# Altium schematic symbol library Common.SchLib: 5 symbols
Pins are listed as number, name and electrical type; pins without a type are passive.

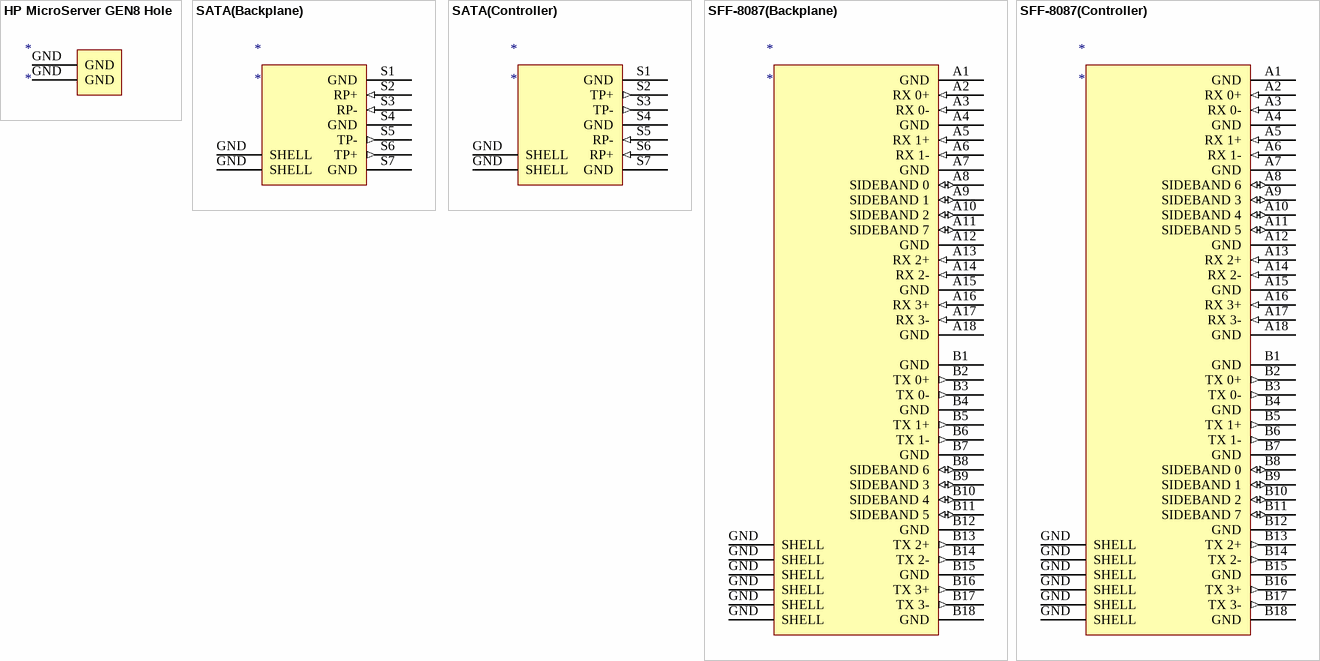
[diagram p0: symbols HP MicroServer GEN8 Hole to SFF-8087(Controller)]

## HP MicroServer GEN8 Hole
designator *
footprint GEN8-HDD-Backplane-Hole
pins: GND, GND

## SATA(Backplane)
designator *
footprint MOLEX SATA (47080-4001) (47080-4001,0470804001)
pins: GND SHELL, GND SHELL, S1 GND, S2 RP+ (in), S3 RP- (in), S4 GND, S5 TP- (out), S6 TP+ (out), S7 GND

## SATA(Controller)
designator *
footprint MOLEX SATA (47080-4001) (47080-4001,0470804001)
pins: GND SHELL, GND SHELL, S1 GND, S2 TP+ (out), S3 TP- (out), S4 GND, S5 RP- (in), S6 RP+ (in), S7 GND

## SFF-8087(Backplane)
designator *
footprint Molex SFF-8087 (75783-0140) (75783-0140,0757830140)
pins: A1 GND, A2 RX 0+ (in), A3 RX 0- (in), A4 GND, A5 RX 1+ (in), A6 RX 1- (in), A7 GND, A8 SIDEBAND 0 (io), A9 SIDEBAND 1 (io), A10 SIDEBAND 2 (io), A11 SIDEBAND 7 (io), A12 GND, A13 RX 2+ (in), A14 RX 2- (in), A15 GND, A16 RX 3+ (in), A17 RX 3- (in), A18 GND, B1 GND, B2 TX 0+ (out), B3 TX 0- (out), B4 GND, B5 TX 1+ (out), B6 TX 1- (out), B7 GND, B8 SIDEBAND 6 (io), B9 SIDEBAND 3 (io), B10 SIDEBAND 4 (io), B11 SIDEBAND 5 (io), B12 GND, B13 TX 2+ (out), B14 TX 2- (out), B15 GND, B16 TX 3+ (out), B17 TX 3- (out), B18 GND, GND SHELL, GND SHELL, GND SHELL, GND SHELL, GND SHELL, GND SHELL

## SFF-8087(Controller)
designator *
footprint Molex SFF-8087 (75783-0140) (75783-0140,0757830140)
pins: A1 GND, A2 RX 0+ (in), A3 RX 0- (in), A4 GND, A5 RX 1+ (in), A6 RX 1- (in), A7 GND, A8 SIDEBAND 6 (io), A9 SIDEBAND 3 (io), A10 SIDEBAND 4 (io), A11 SIDEBAND 5 (io), A12 GND, A13 RX 2+ (in), A14 RX 2- (in), A15 GND, A16 RX 3+ (in), A17 RX 3- (in), A18 GND, B1 GND, B2 TX 0+ (out), B3 TX 0- (out), B4 GND, B5 TX 1+ (out), B6 TX 1- (out), B7 GND, B8 SIDEBAND 0 (io), B9 SIDEBAND 1 (io), B10 SIDEBAND 2 (io), B11 SIDEBAND 7 (io), B12 GND, B13 TX 2+ (out), B14 TX 2- (out), B15 GND, B16 TX 3+ (out), B17 TX 3- (out), B18 GND, GND SHELL, GND SHELL, GND SHELL, GND SHELL, GND SHELL, GND SHELL